# Altium schematic symbol library AP1117.Schlib: 1 symbol
Pins are listed as number, name and electrical type; pins without a type are passive.

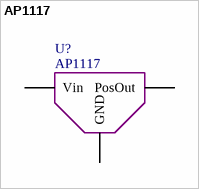
[diagram p0: symbol AP1117]

## AP1117
designator U?
pins: 1 GND, 2 PosOut, 3 Vin